# Altium footprint library antennaArray.PcbLib: 3 footprints
Each footprint in its own frame and in the unit in brackets; x right, y up, seen from the top. Pads: shape width x height; smd on the part's side, far side on the other; paste and mask are expansions set on the pad; w line width, h text height; cw(c..) or ccw(c..) is an arc to the next point about the centre after c.
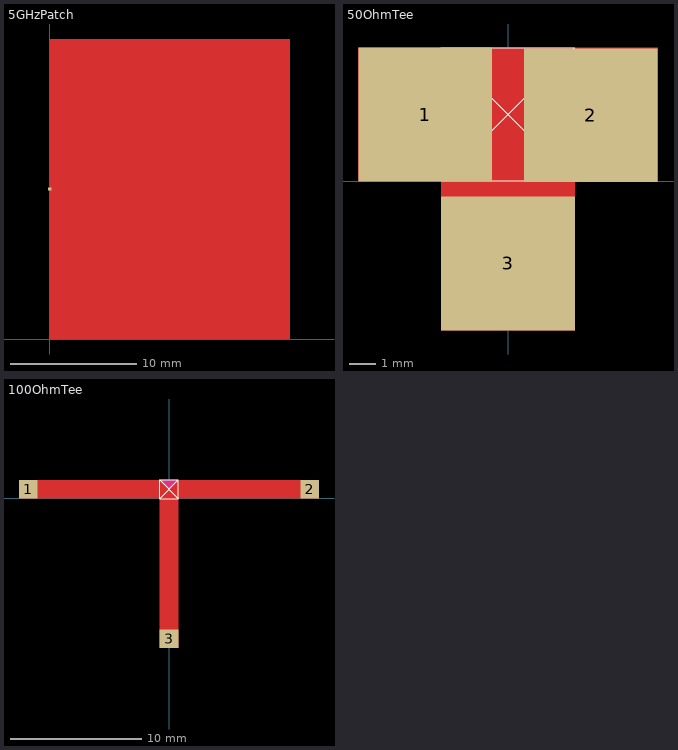
[diagram p0: the footprints below, top view; thin cyan lines are the x and y axes]

## 5GHzPatch [mil]
pads (1):
  rect 10x10 smd: 2(0,467)
Top Layer:
  rectangle: 0,0 748,934

## 50OhmTee [mil]
pads (3):
  rect 200x200 smd: 1(-124,100) 2(124,99) 3(0,-123)
Top Layer:
  rectangle: -224.5,0 224.5,200
  rectangle: -100,-223 100,1
  pour cut-out: -100,200 0,100 100,200
Top Overlay:
  lines w1: 99,1 -100,200 ; -100,1 100,1 100,200 ; -100,1 -100,200 ; -100,1 -99,1 100,200 ; -100,200 100,200 ; -100,200 100,200

## 100OhmTee [mil]
pads (3):
  rect 56x56 smd: 1(-421,27) 2(421,27) 3(0,-421)
Top Layer:
  rectangle: -449,-1 449,55
  rectangle: -28,-449 28,0
Top Overlay:
  lines w1: -28,-1 28,-1 ; -28,-1 -28,55 ; -28,-1 28,55 ; -28,-1 28,-1 ; -28,55 28,55 ; -28,55 28,-1 ; 28,-1 28,55
Keep-Out Layer:
  board cut-out: -28,55 0,27 28,55